# Altium footprint library my_altium_library.PcbLib: 4 footprints
Each footprint in its own frame and in the unit in brackets; x right, y up, seen from the top. Pads: shape width x height; smd on the part's side, far side on the other; paste and mask are expansions set on the pad; w line width, h text height; cw(c..) or ccw(c..) is an arc to the next point about the centre after c.
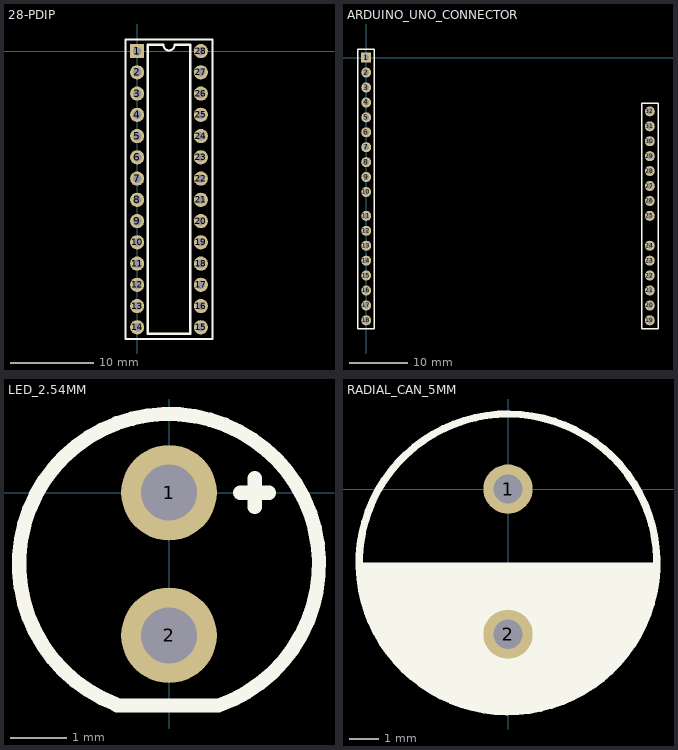
[diagram p0: the footprints below, top view; thin cyan lines are the x and y axes]

## 28-PDIP [mm]
pads (28):
  rect 1.7x1.7 hole 1: 1(0,0)
  round 1.7 hole 1: 2(0,-2.54) 3(0,-5.08) 4(0,-7.62) 5(0,-10.16) 6(0,-12.7) 7(0,-15.24) 8(0,-17.78) 9(0,-20.32) 10(0,-22.86) 11(0,-25.4) 12(0,-27.94) 13(0,-30.48) 14(0,-33.02) 15(7.62,-33.02) 16(7.62,-30.48) 17(7.62,-27.94) 18(7.62,-25.4) 19(7.62,-22.86) 20(7.62,-20.32) 21(7.62,-17.78) 22(7.62,-15.24) 23(7.62,-12.7) 24(7.62,-10.16) 25(7.62,-7.62) 26(7.62,-5.08) 27(7.62,-2.54) 28(7.62,0)
Top Overlay:
  lines w0.254: -1.397,-34.417 -1.397,1.397 9.017,1.397 9.017,-34.417 -1.397,-34.417 ; 1.27,-33.782 6.35,-33.782 6.35,0.762 4.494,0.762 cw(c3.81,0.762) 3.126,0.762 1.27,0.762 1.27,-33.782

## ARDUINO_UNO_CONNECTOR [mm]
pads (32):
  rect 1.7x1.7 hole 1: 1(0,0)
  round 1.7 hole 1: 2(0,-2.54) 3(0,-5.08) 4(0,-7.62) 5(0,-10.16) 6(0,-12.7) 7(0,-15.24) 8(0,-17.78) 9(0,-20.32) 10(0,-22.86) 11(0,-26.924) 12(0,-29.464) 13(0,-32.004) 14(0,-34.544) 15(0,-37.084) 16(0,-39.624) 17(0,-42.164) 18(0,-44.704) 19(48.26,-44.704) 20(48.26,-42.164) 21(48.26,-39.624) 22(48.26,-37.084) 23(48.26,-34.544) 24(48.26,-32.004) 25(48.26,-26.924) 26(48.26,-24.384) 27(48.26,-21.844) 28(48.26,-19.304) 29(48.26,-16.764) 30(48.26,-14.224) 31(48.26,-11.684) 32(48.26,-9.144)
Top Overlay:
  lines w0.254: -1.397,-46.101 -1.397,1.397 1.397,1.397 1.397,-46.101 -1.397,-46.101 ; 46.863,-46.101 46.863,-7.747 49.657,-7.747 49.657,-46.101 46.863,-46.101

## LED_2.54MM [mm]
pads (2):
  round 1.7 hole 1: 1(0,0) 2(0,-2.54)
Top Overlay:
  lines w0.254: -0.951,-3.765 cw(c0,-1.27) 0.882,-3.79 -0.925,-3.79 ; 1.27,0 1.778,0 ; 1.524,-0.254 1.524,0.254

## RADIAL_CAN_5MM [mm]
pads (2):
  round 1.7 hole 1: 1(0,0) 2(0,-5)
Top Overlay:
  region: -5.08,-2.54 5.08,-2.54 5.08,-3.429 4.953,-3.556 4.953,-4.191 4.572,-4.699 4.445,-5.08 3.429,-6.35 2.032,-7.239 0.762,-7.62 -0.508,-7.747 -1.873,-7.354 -3.006,-6.646 -4.445,-5.207 -4.826,-4.064
  lines w0.254: 5.125,-2.394 cw(c0,-2.54) 5.125,-2.389